# Altium schematic symbol library LED_RGB.SchLib: 1 symbol
Pins are listed as number, name and electrical type; pins without a type are passive.

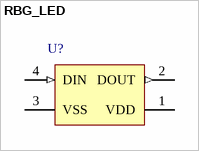
[diagram p0: symbol RBG_LED]

## RBG_LED
designator U?
LED ADAI-WS2812B-4; Digi-Key_Part_Number: 516-3280-1-ND; ComponentLink1Description: Digi-Key_Purchase_URL; ComponentLink1URL: https://www.digikey.com/en/products/detail/broadcom-limited/ASMB-MTB1-0A3A2/5695366; ComponentLink2Description: Datasheet_Link; ComponentLink2URL: https://docs.broadcom.com/docs/AV02-4194EN
footprint RGB_LED_1
pins: 1 VDD (power) "Power supply LED", 2 DOUT (out) "Control data signal output", 3 VSS (power) "Ground", 4 DIN (in) "Control data signal input"